# EAGLE library part 74LVC2G00DC (library BQ25504)
NAND, 2-Array
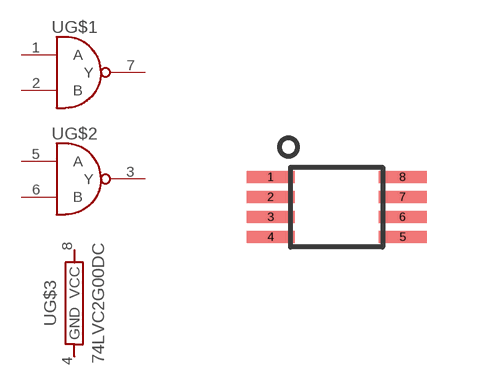
[diagram p54: symbol with the pads of VSSOP-8; footprint VSSOP-8]

Designator prefix U; gates G$1=NAND G$2=NAND G$3=SUPPLY

## 74LVC2G00DC (DIGIKEY: 568-7671-1-ND)  [VSSOP-8]
1  G$1:A
2  G$1:B
3  G$2:Y
4  G$3:GND
5  G$2:A
6  G$2:B
7  G$1:Y
8  G$3:VCC

## Footprint VSSOP-8 (pad centres in mm)
smd 1.2 x 0.3: 1 -1.65,0.75; 2 -1.65,0.25; 3 -1.65,-0.25; 4 -1.65,-0.75; 5 1.65,-0.75; 6 1.65,-0.25; 7 1.65,0.25; 8 1.65,0.75